# EAGLE library part TSW-D-06 (library con-samtec-tsw)
HEADER
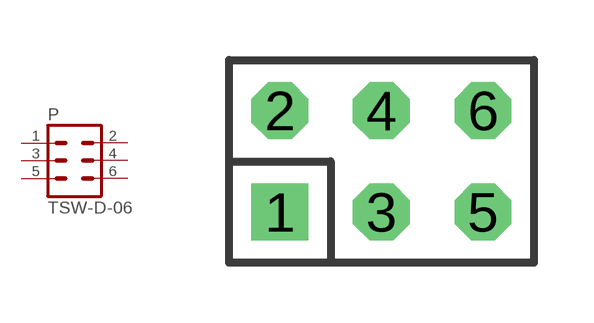
[diagram p90: symbol with the pads of TSW-D-06; footprint TSW-D-06]

Designator prefix P

## TSW-D-06  [TSW-D-06]
1  1  pas
2  2  pas
3  3  pas
4  4  pas
5  5  pas
6  6  pas

## Footprint TSW-D-06 (pad centres in mm)
HEADER
drill 0.914 square: 1 -2.54,-1.27
drill 0.914 octagon: 2 -2.54,1.27; 3 0,-1.27; 4 0,1.27; 5 2.54,-1.27; 6 2.54,1.27